# EAGLE library part L76 (library quectel_gps)
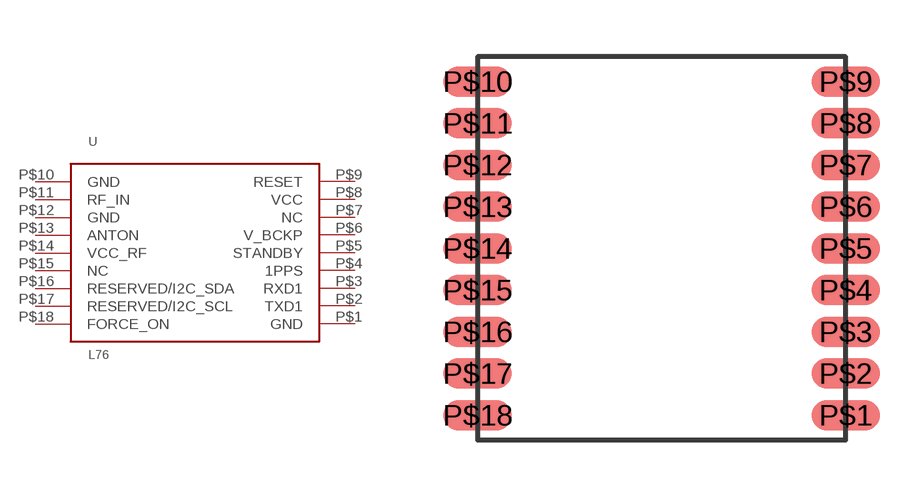
[diagram p1: symbol with the pads of L76; footprint L76]

Designator prefix -

## L76  [L76]
P$1  GND  pwr
P$2  TXD1  out
P$3  RXD1  in
P$4  1PPS  out
P$5  STANDBY  in
P$6  V_BCKP  in
P$7  NC  nc
P$8  VCC  pwr
P$9  RESET  in
P$10  GND  pwr
P$11  RF_IN  in
P$12  GND  pwr
P$13  ANTON  out
P$14  VCC_RF  out
P$15  NC  nc
P$16  RESERVED/I2C_SDA
P$17  RESERVED/I2C_SCL
P$18  FORCE_ON  in

## Footprint L76 (pad centres in mm)
smd 1.8 x 0.8: P$1 0,0.65; P$2 0,1.75; P$3 0,2.85; P$4 0,3.95; P$5 0,5.05; P$6 0,6.15; P$7 0,7.25; P$8 0,8.35; P$9 0,9.45; P$10 -9.7,9.45; P$11 -9.7,8.35; P$12 -9.7,7.25; P$13 -9.7,6.15; P$14 -9.7,5.05; P$15 -9.7,3.95; P$16 -9.7,2.85; P$17 -9.7,1.75; P$18 -9.7,0.65